# EAGLE library part POWER-IR2113SPBF (library Namenlos)
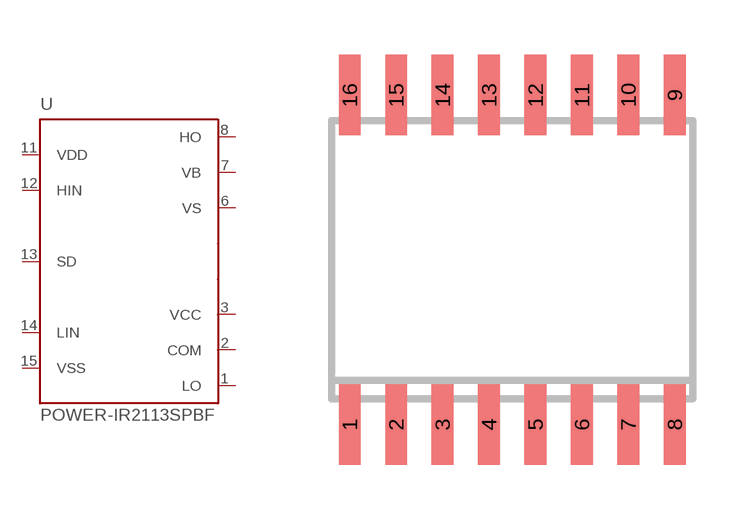
[diagram p19: symbol with the pads of SO16W; footprint SO16W]

Designator prefix -

## POWER-IR2113SPBF  [SO16W]
1  LO  out
2  COM  sup
3  VCC  sup
6  VS  sup
7  VB  sup
8  HO  out
11  VDD  pwr
12  HIN  in
13  SD  in
14  LIN  in
15  VSS  pwr

## Footprint SO16W (pad centres in mm)
smd 0.6 x 2.2: 1 -4.445,-4.505; 2 -3.175,-4.505; 3 -1.905,-4.505; 4 -0.635,-4.505; 5 0.635,-4.505; 6 1.905,-4.505; 7 3.175,-4.505; 8 4.445,-4.505; 9 4.445,4.505; 10 3.175,4.505; 11 1.905,4.505; 12 0.635,4.505; 13 -0.635,4.505; 14 -1.905,4.505; 15 -3.175,4.505; 16 -4.445,4.505